# Altium footprint library ComponentLibrary.PcbLib: 153 footprints (part 1 of 10)
Each footprint in its own frame and in the unit in brackets; x right, y up, seen from the top. Pads: shape width x height; smd on the part's side, far side on the other; paste and mask are expansions set on the pad; w line width, h text height; cw(c..) or ccw(c..) is an arc to the next point about the centre after c.
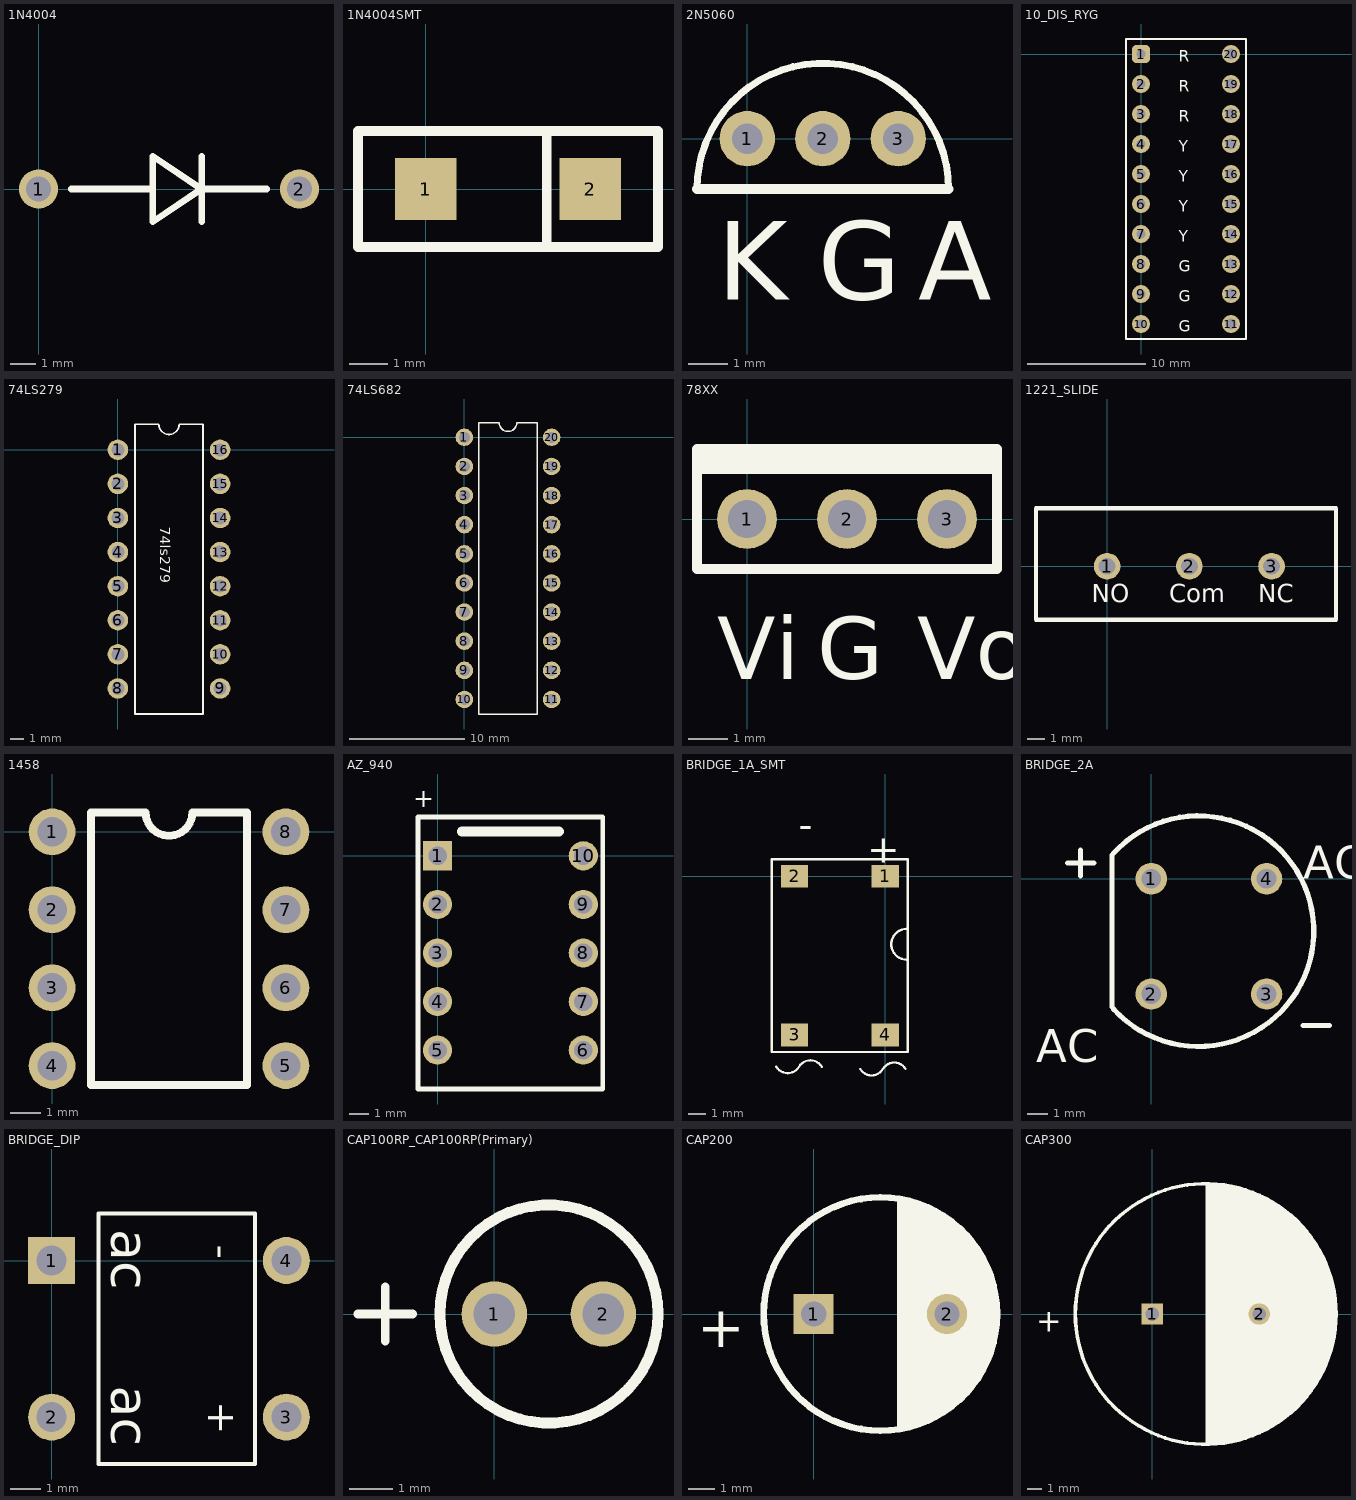
[diagram p0: the footprints below, top view; thin cyan lines are the x and y axes]

## 1N4004 [mil]
pads (2):
  round 60 hole 38: 1(0,0) 2(400,0)
Top Overlay:
  lines w10: 50,0 175,0 ; 250,-50 250,50 ; 350,0 250,0 ; 250,0 175,50 175,-50 250,0

## 1N4004SMT [mil]
pads (2):
  rect 64x64 smd: 1(0,0) 2(170,0)
Top Overlay:
  lines w10: 125,-60 125,60 ; -70,-60 -70,60 240,60 240,-60 -70,-60

## 2N5060 [mil]
pads (3):
  round 55 hole 30: 1(0,0) 2(75,0) 3(150,0)
Top Overlay:
  lines w7: -50,-50 cw(c75,-50) 200,-50
  lines w10: -50,-50 200,-50
  text "K" at -30,-160 h78.12
  text "A" at 170,-160 h78.12
  text "G" at 70,-160 h78.12

## 10_DIS_RYG [mil]
pads (20):
  rrect50% 60x60 hole 30: 1(0,0)
  round 60 hole 30: 2(0,-100) 3(0,-200) 4(0,-300) 5(0,-400) 6(0,-500) 7(0,-600) 8(0,-700) 9(0,-800) 10(0,-900)
  round 60 hole 38: 11(300,-900) 12(300,-800) 13(300,-700) 14(300,-600) 15(300,-500) 16(300,-400) 17(300,-300) 18(300,-200) 19(300,-100) 20(300,0)
Top Overlay:
  lines w7: -50,-950 350,-950 350,50 -50,50 -50,-950
  text "R" at 125,-125 h37.5
  text "G" at 125,-725 h37.5
  text "Y" at 125,-425 h37.5
  text "R" at 125,-25 h37.5
  text "Y" at 125,-325 h37.5
  text "R" at 125,-225 h37.5
  text "Y" at 125,-625 h37.5
  text "Y" at 125,-525 h37.5
  text "G" at 125,-925 h37.5
  text "G" at 125,-825 h37.5

## 74LS279 [mil]
pads (16):
  round 60 hole 38: 1(0,0) 2(0,-100) 3(0,-200) 4(0,-300) 5(0,-400) 6(0,-500) 7(0,-600) 8(0,-700) 9(300,-700) 10(300,-600) 11(300,-500) 12(300,-400) 13(300,-300) 14(300,-200) 15(300,-100) 16(300,0)
Top Overlay:
  lines w5: 50,-775 250,-775 250,75 180,75 cw(c150,75) 120,75 50,75 50,-775
  text "74ls279" at 125,-225 h30

## 74LS682 [mil]
pads (20):
  round 60 hole 38: 1(0,0) 2(0,-100) 3(0,-200) 4(0,-300) 5(0,-400) 6(0,-500) 7(0,-600) 8(0,-700) 9(0,-800) 10(0,-900) 11(300,-900) 12(300,-800) 13(300,-700) 14(300,-600) 15(300,-500) 16(300,-400) 17(300,-300) 18(300,-200) 19(300,-100) 20(300,0)
Top Overlay:
  lines w5: 50,-950 50,50 120,50 ccw(c150,50) 180,50 250,50 250,-950 50,-950

## 78XX [mil]
pads (3):
  round 60 hole 38: 1(0,0) 2(100,0) 3(200,0)
Top Overlay:
  lines w10: -50,50 250,50 ; -50,60 250,60 ; -50,-50 250,-50 250,70 -50,70 -50,-50
  text "G" at 70,-160 h62.5
  text "Vo" at 170,-160 h62.5
  text "Vi" at -30,-160 h62.5

## 1221_SLIDE [mil]
pads (3):
  round 60 hole 38: 1(0,0) 2(185,0) 3(370,0)
Top Overlay:
  lines w10: -160,-120 -160,130 515,130 515,-120 -160,-120
  text "NO" at -35,-95 h69.44
  text "NC" at 340,-95 h69.44
  text "Com" at 140,-95 h69.44

## 1458 [mil]
pads (8):
  round 60 hole 38: 1(0,0) 2(0,-100) 3(0,-200) 4(0,-300) 5(300,-300) 6(300,-200) 7(300,-100) 8(300,0)
Top Overlay:
  lines w10: 50,-325 50,25 120,25 ccw(c150,25) 180,25 250,25 250,-325 50,-325

## AZ_940 [mil]
pads (10):
  rect 60x60 hole 38: 1(0,0)
  round 60 hole 38: 2(0,-100) 3(0,-200) 4(0,-300) 5(0,-400) 6(300,-400) 7(300,-300) 8(300,-200) 9(300,-100) 10(300,0)
Top Overlay:
  lines w10: -40,-480 -40,80 340,80 340,-480 -40,-480
  lines w20: 50,50 250,50
  text "+" at -50,100 h37.5

## BRIDGE_1A_SMT [mil]
pads (4):
  rect 60x50 smd: 1(0,0) 2(-200,0) 3(-200,-350) 4(0,-350)
Top Overlay:
  lines w5: -240,-420 ccw(c-215,-405) -190,-420 cw(c-165,-435) -140,-420 ; -55,-425 ccw(c-30,-410) -5,-425 cw(c20,-440) 45,-425 ; 47.5,-184 cw(c47.5,-150) 47.5,-116 ; -250,-387.5 -250,37.5 50,37.5 50,-387.5 -250,-387.5
  text "+" at -40,30 h62.5
  text "-" at -160,130 h62.5

## BRIDGE_2A [mil]
pads (4):
  round 60 hole 38: 1(0,0) 2(0,-220) 3(220,-220) 4(220,0)
Top Overlay:
  lines w10: -160,30 -110,30 ; -135,5 -135,55 ; -75,-245 -75,45 ; -71.68,-249.2 ccw(c90,-100) -71.68,49.2 ; 290,-280 340,-280
  text "AC" at 290,0 h62.5
  text "AC" at -220,-350 h62.5

## BRIDGE_DIP [mil]
pads (4):
  rect 60x60 hole 38: 1(0,0)
  round 60 hole 38: 2(0,-200) 3(300,-200) 4(300,0)
Top Overlay:
  lines w5: 60,-260 260,-260 260,60 60,60 60,-260
  text "ac" at 60,-160 h83.33
  text "+" at 200,-180 h37.5
  text "ac" at 60,40 h83.33
  text "-" at 200,20 h37.5

## CAP100RP_CAP100RP(Primary) [mil]
pads (2):
  round 60 hole 38: 1(0,0) 2(100,0)
Top Overlay:
  circle w10: c50,0 r100
  lines w8: -125,0 -75,0 ; -100,-25 -100,25

## CAP200 [mil]
pads (2):
  rect 60x60 hole 38: 1(0,0)
  round 60 hole 38: 2(200,0)
Top Overlay:
  circle w10: c100,0 r175
  region: 125,175 125,-175 150,-170 180,-160 200,-140 225,-125 250,-100 260,-80 270,-50 275,-25 275,0 275,25 270,50 260,80 240,100 225,125 200,140 180,160 150,170
  text "+" at -175,-50 h62.5

## CAP300 [mil]
pads (2):
  rect 60x60 hole 38: 1(0,0)
  round 60 hole 38: 2(300,0)
Top Overlay:
  circle w10: c150,0 r365
  region: 150,365 150,-365 250,-355 355,-305 445,-220 480,-155 500,-115 510,-80 510,-55 515,-15 515,20 495,125 450,210 410,255 385,275 365,300 345,310 300,330 255,350 215,360 180,365
  text "+" at -325,-50 h62.5